# Altium schematic symbol library MOSFET P SOT-23-6.Schlib: 1 symbol
Pins are listed as number, name and electrical type; pins without a type are passive.

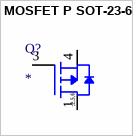
[diagram p0: symbol MOSFET P SOT-23-6]

## MOSFET P SOT-23-6
designator Q?
pins: 1 D, 2 D, 3 G, 4 S, 5 D, 6 D
text: ,2,5,6